# Altium integrated library adapter_dongle.IntLib: 10 symbols
Pins are listed as number, name and electrical type; pins without a type are passive.

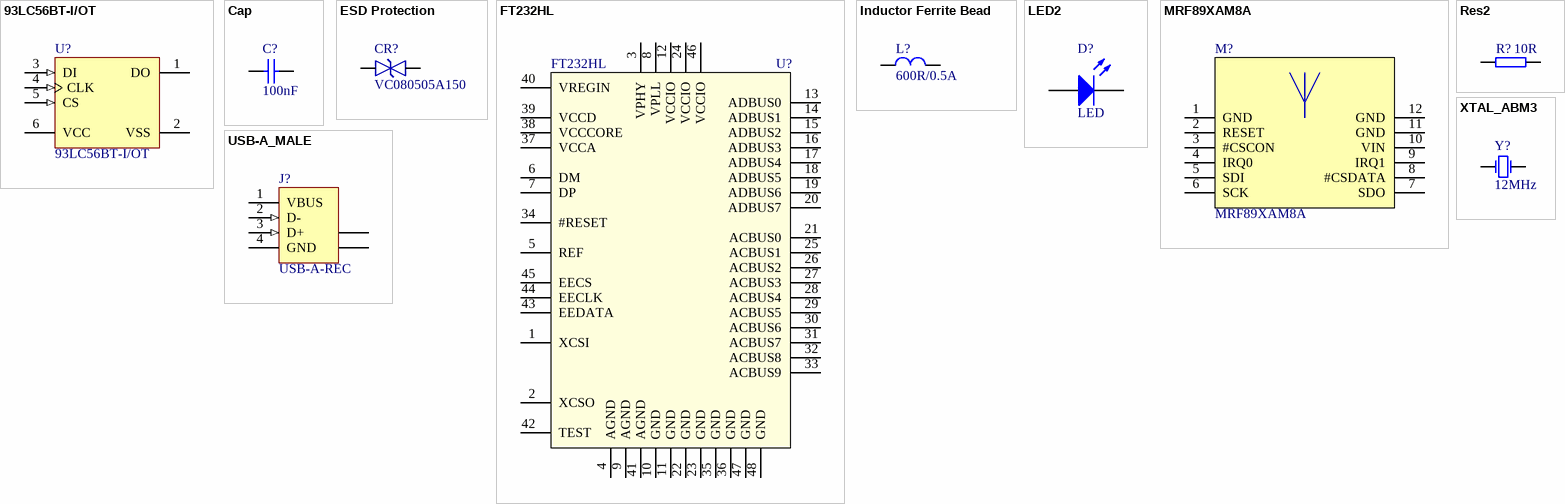
[diagram p0: symbols 93LC56BT-I/OT to XTAL_ABM3]

## 93LC56BT-I/OT
designator U?
2K, 128x16-bit, 2.5V Microwire Serial EEPROM, 6-Pin SOT-23, Industrial Temperature, Tape and Reel; FirstPublished: 29-Jan-2009; DatasheetVersion: revF, May-2008; PackageVersion: revBB, Aug-2009; PackageReference: SOT-23-OT6; Publisher: Altium Limited; PackageDescription: 6-Lead Plastic Small Outline Transistor (OT) [SOT-23]; Supplier 1: Digi-Key; Supplier Part Number 1: 93LC56BT-I/OTTR-ND; Supplier 2: Digi-Key; Supplier Part Number 2: 93LC56BT-I/OTCT-ND; Supplier 3: Digi-Key; Supplier Part Number 3: 93LC56BT-I/OTDKR-ND; Supplier 4: Farnell; Supplier Part Number 4: 1556165; Supplier 5: Newark; Supplier Part Number 5: 30H4760; Code_IPC: SOT26A-6; ComponentLink1Description: Datasheet; ComponentLink1URL: http://ww1.microchip.com/downloads/en/DeviceDoc/21794F.pdf; ComponentLink2Description: Packaging Specification; ComponentLink2URL: http://www.microchip.com/stellent/groups/techpub_sg/documents/packagingspec/en012702.pdf; ComponentLink3Description: Microchip.com Home; ComponentLink3URL: http://www.microchip.com/; TME: 93LC56BT-I/OT
footprint SOT-23-OT6_N (SOT23, 6-Leads, Body 2.9x1.6mm, Pitch 0.95mm, Lead Span 2.7mm, IPC Medium Density)
pins: 1 DO (hiz), 2 VSS (power), 3 DI (in), 4 CLK (in), 5 CS (in), 6 VCC (power)

## Cap
designator C?, comment 100nF
Capacitor; Published: 8-Jun-2000; LatestRevisionDate: 17-Jul-2002; LatestRevisionNote: Re-released for DXP Platform.; PackageReference: 0402; Publisher: Altium Limited; Value: 100nF
simulation model CAP (Capacitor)
signal-integrity model Cap
footprint C0402 (Capacitor SMD 0402; 1.0 x 0.5 mm)
footprint C0603 (Capacitor SMD 0603; 1.6 x 0.8 mm)
footprint C0805 (Capacitor SMD 0805; 2.0 x 1.2 mm)
footprint C1206 (Capacitor SMD 1206; 3.2 x 1.6 mm)
footprint C1210 (Capacitor SMD 1210; 3.2 x 2.5 mm)
footprint C1812 (Capacitor SMD 1812; 4.5 x 3.2 mm)
footprint C2220 (Capacitor SMD 2220; 5.7 x 5.0 mm)
pins: 1, 2

## ESD Protection
designator CR?, comment VC080505A150
Multilayer Ceramic Transient Voltage Suppressors; TME: VC080505A150
footprint R0805 (Resistor SMD 0805; 2.0 x 1.2 mm)
pins: 1, 2

## FT232HL
designator U?
Single Channel HiSpeed USB to Multipurpose   UART/FIFO IC; TME: http://www.tme.eu/cz/details/ft232hl/integrovane-obvody-interface-usb/ftdi/ft232hl-tray/
footprint LQFP-48_M (48-Pin Thin Quad Flat Pack 0.5 mm Pitch, IPC Low Density)
pins: 1 XCSI, 2 XCSO, 3 VPHY, 4 AGND, 5 REF, 6 DM, 7 DP, 8 VPLL, 9 AGND, 10 GND, 11 GND, 12 VCCIO, 13 ADBUS0, 14 ADBUS1, 15 ADBUS2, 16 ADBUS3, 17 ADBUS4, 18 ADBUS5, 19 ADBUS6, 20 ADBUS7, 21 ACBUS0, 22 GND, 23 GND, 24 VCCIO, 25 ACBUS1, 26 ACBUS2, 27 ACBUS3, 28 ACBUS4, 29 ACBUS5, 30 ACBUS6, 31 ACBUS7, 32 ACBUS8, 33 ACBUS9, 34 #RESET, 35 GND, 36 GND, 37 VCCA, 38 VCCCORE, 39 VCCD, 40 VREGIN, 41 AGND, 42 TEST, 43 EEDATA, 44 EECLK, 45 EECS, 46 VCCIO, 47 GND, 48 GND

## Inductor Ferrite Bead
designator L?, comment 600R/0.5A
Inductor Ferrite Bead, BLM18PG; Code_IEC: 1005; Value: 220Z; Published: 8-Jun-2000; LatestRevisionDate: 17-Jul-2002; LatestRevisionNote: Re-released for DXP Platform.; PackageReference: L0603; Publisher: Altium Limited; Code_JEITA: 0603; PackageDescription: Inductor SMD 0603; 1.6 x 0.8 mm; TME: MMZ2012R601A
footprint L0603 (Inductor SMD 0603; 1.6 x 0.8 mm)
footprint L0603 (Chip Inductor; Body 1.6 x 0.8 mm (LxW typ))
simulation model INDUCTOR (Inductor)
signal-integrity model Inductor
footprint L0805 (Inductor SMD 0805; 2.0 x 1.2 mm)
footprint 3216 Chip (Chip Inductor; Body 3.2 x 1.6 mm (LxW typ))
footprint L1210 (Inductor SMD 1210; 3.2 x 2.5 mm)
pins: 1, 2

## LED2
designator D?, comment LED
Typical RED, GREEN, YELLOW, AMBER GaAs LED; Published: 8-Jun-2000; LatestRevisionDate: 17-Jul-2002; LatestRevisionNote: Re-released for DXP Platform.; PackageDocument: Feb-2002; PackageReference: 0603; Publisher: Altium Limited
footprint 3.2X1.6X1.1 (SMT LED; 2 Flat Leads)
simulation model LED2 (Diode)
footprint D0603 (LED SMD 0603; 1.6 x 0.8 mm)
footprint D0805 (LED SMD 0805; 2.0 x 1.2 mm)
footprint KPA3010 (LED SMD Right Angle)
pins: 1 A, 2 K

## MRF89XAM8A
designator M?
868 MHz Ultra-Low Power  Sub-GHz Transceiver Module; farnell: 1875307; TME: MRF89XAM8A-I/RM
footprint MRF89XAM8A (868MHz Ultra-Low Power  Sub-GHz Transceiver Module)
pins: 1 GND, 2 RESET, 3 #CSCON, 4 IRQ0, 5 SDI, 6 SCK, 7 SDO, 8 #CSDATA, 9 IRQ1, 10 VIN, 11 GND, 12 GND

## Res2
designator R?, comment 10R
Resistor; Published: 8-Jun-2000; LatestRevisionDate: 17-Jul-2002; LatestRevisionNote: Re-released for DXP Platform.; PackageReference: 0603; Publisher: Altium Limited; Value: 10R
footprint AXIAL-0.4 (Resistor; 2 Leads)
simulation model RESISTOR (Resistor)
signal-integrity model Res
footprint R0402 (Resistor SMD 0402; 1.0 x 0.5 mm)
footprint R0603 (Resistor SMD 0603; 1.6 x 0.8 mm)
footprint R0805 (Resistor SMD 0805; 2.0 x 1.2 mm)
footprint R1206 (Resistor SMD 1206; 3.2 x 1.6 mm)
footprint R1812 (Resistor SMD 1812; 4.5 x 3.2 mm)
footprint R2512 (Resistor SMD 2512; 6.3 x 3.2 mm)
footprint AXIAL-0.3 (Resistor; 2 Leads)
footprint AXIAL-0.7 (Variable Resistor; 2 Leads)
pins: 1, 2

## USB-A_MALE
designator J?, comment USB-A-REC
USB 1.1, Right Angle, Thru-Hole, Reverse Type, 4 Position, Black; TerminationLength: 2.40mm [0.094in.]; PackageDocument: 18-Mar-2004; HousingMaterial: Glass-Filled Thermoplastic; TME: USBA-LP/SMD
signal-integrity model USB1.1
footprint USB/SM2.5-4H4A (Connector; USB1.1, Type A, SM; 4 Position; Right Angle)
pins: 1 VBUS (power) "Power", 2 D- (in) "-DATA", 3 D+ (in) "+DATA", 4 GND (power) "Ground", 5 SHLD "Shield", 6 SHLD "Shield"

## XTAL_ABM3
designator Y?, comment 12MHz
Crystal; Value: 25MHz; Published: 8-Jun-2000; LatestRevisionDate: 17-Jul-2002; LatestRevisionNote: Re-released for DXP Platform.; PackageReference: ABM8; Publisher: Altium Limited; ComponentLink1Description: Manufacturer Link; ComponentLink1URL: http://www.abracon.com; ComponentLink2Description: Datasheet; ComponentLink2URL: http://www.abracon.com/Resonators/abm8.pdf; PackageDescription: Oscilator Ceramic Package 3.2x2.5 mm; TME: ABM3B-12.000MHZ-B2
simulation model XTAL (Spice Subcircuit)
footprint OSC 5.0X3.2 (Oscilator Ceramic Package 5.0x3.2 mm)
pins: 1 OSC1, 3 OSC2